# Altium schematic symbol library SMAJ15A.SchLib: 1 symbol
Pins are listed as number, name and electrical type; pins without a type are passive.

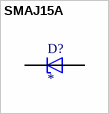
[diagram p0: symbol SMAJ15A]

## SMAJ15A
designator D?
400W, 17.6V, 5%, Unidirectional, TVS; MF: Taiwan Semiconductor; MP: SMAJ15A; SnapEDA_Link: https://www.snapeda.com/parts/SMAJ15A/taiwan/view-part/?ref=snap; Package: SMA-2 Taiwan Semiconductor; Value: *; Check_prices: https://www.snapeda.com/parts/SMAJ15A/taiwan/view-part/?ref=eda
footprint DIOM4325X250N
pins: A, C